# EAGLE library part 43045-0800 (library ruark2)
Connector Header Through Hole, Right Angle 8 position 0.118" (3.00mm)
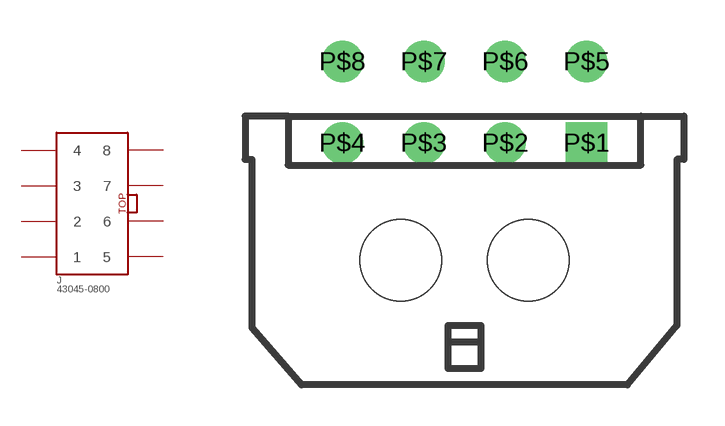
[diagram p108: symbol with the pads of 43045-0800; footprint 43045-0800]

Designator prefix J

## 43045-0800 (PARTNO: WM1816-ND)  [43045-0800]
P$1  1
P$2  2
P$3  3
P$4  4
P$5  5
P$6  6
P$7  7
P$8  8

## Footprint 43045-0800 (pad centres in mm)
drill 1.02 square: P$1 4.5,4.32
drill 1.02: P$2 1.5,4.32; P$3 -1.5,4.32; P$4 -4.5,4.32; P$5 4.5,7.32; P$6 1.5,7.32; P$7 -1.5,7.32; P$8 -4.5,7.32
hole 3 at 2.35,0
hole 3 at -2.35,0